# EAGLE library part LM2664M6/NOPB (library ds_ic_vreg)
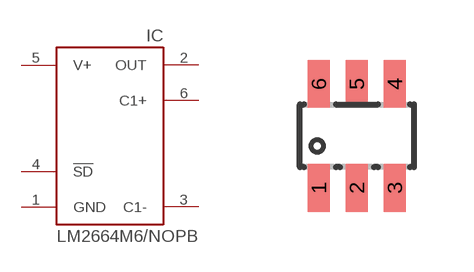
[diagram p29: symbol with the pads of SOT23-6; footprint SOT23-6]

Designator prefix IC

## LM2664M6/NOPB (DATASHEET: https://www.ti.com/lit/ds/symlink/lm2664.pdf; DESCRIPTION: -40℃~+85℃ -5.5V~-1.8V 1.8V~5.5V 12Ω 40mA 500uA 80kHz 91% Inverted Not Supported SOT-23-6 Charge Pumps ROHS; LCSC_PART: C840095; MANUFACTURER: Texas Instruments; MPN: LM2664M6/NOPB; ROHS: YES; VALUE: LM2664M6/NOPB)  [SOT23-6]
1  GND  pwr
2  OUT  pwr
3  C1-  out
4  !SD  in
5  V+  pwr
6  C1+  in

## Footprint SOT23-6 (pad centres in mm)
smd 0.55 x 1.2: 1 -0.95,-1.3; 2 0,-1.3; 3 0.95,-1.3; 4 0.95,1.3; 5 0,1.3; 6 -0.95,1.3